# Altium footprint library sinking-clock.PcbLib: 24 footprints (part 2 of 2)
Each footprint in its own frame and in the unit in brackets; x right, y up, seen from the top. Pads: shape width x height; smd on the part's side, far side on the other; paste and mask are expansions set on the pad; w line width, h text height; cw(c..) or ccw(c..) is an arc to the next point about the centre after c.
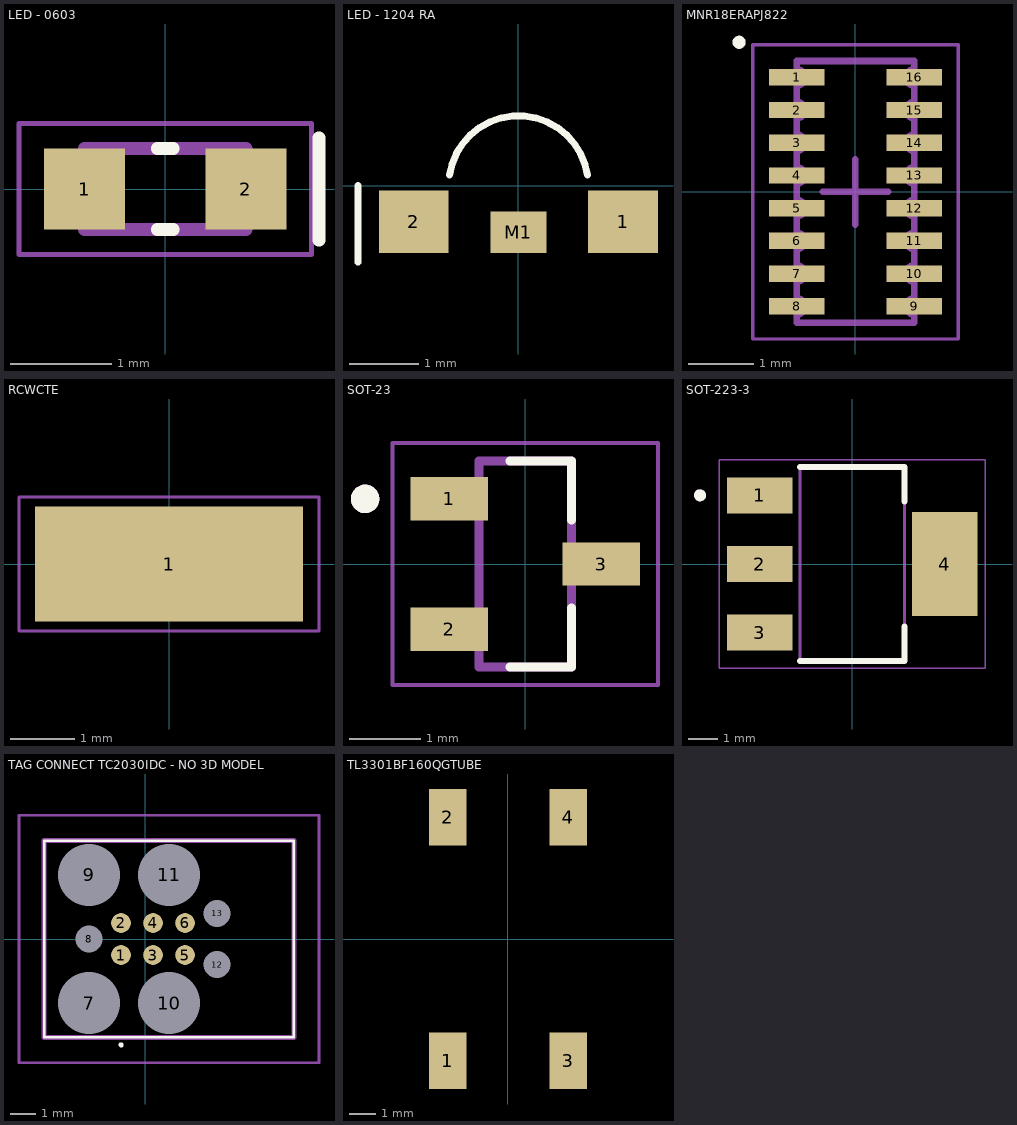
[diagram p1: the footprints below, top view; thin cyan lines are the x and y axes]

## LED - 0603 [mm]
pads (2):
  rect 0.8x0.8 smd: 1(-0.8,0) 2(0.8,0)
Top Overlay:
  lines w0.127: -0.08,-0.4 0.08,-0.4 ; -0.08,0.4 0.08,0.4 ; 1.524,-0.508 1.524,0.508
Mechanical 13:
  lines w0.127: -0.8,-0.4 -0.8,0.4 0.8,0.4 0.8,-0.4 -0.8,-0.4
Mechanical 15:
  lines w0.05: -1.45,-0.65 -1.45,0.65 1.45,0.65 1.45,-0.65 -1.45,-0.65
3D body "WL-SMCW SMT LED WURTH ELEKTRONIK 0603.step": height 0.7, standoff 0, extent -0.8,-0.35 0.8,0.35

## LED - 1204 RA [mm] "SMD Mono-color Side view Waterclear, body 3.2x1.5mm"
height 1
pads (3):
  rect 1x0.9 smd: 1(1.5,-0.52) 2(-1.5,-0.52)
  rect 0.8x0.6 smd: M1(0,-0.67)
Top Overlay:
  lines w0.1: -2.3,-1.1 -2.3,0 ; -0.989,0.148 cw(c0,0) 0.989,0.148
3D body "WL-SMSW_124_round.stp": height 1, standoff 0, extent -1.6,-0.77 1.6,0.708

## MNR18ERAPJ822 [mm] "8.2k Res Array, Concave, 16-Leads, Pitch 0.50mm,  Body 4.00x1.60mm"
height 0.6
pads (16):
  rect 0.85x0.25 smd: 1(-0.9,1.75) 2(-0.9,1.25) 3(-0.9,0.75) 4(-0.9,0.25) 5(-0.9,-0.25) 6(-0.9,-0.75) 7(-0.9,-1.25) 8(-0.9,-1.75) 9(0.9,-1.75) 10(0.9,-1.25) 11(0.9,-0.75) 12(0.9,-0.25) 13(0.9,0.25) 14(0.9,0.75) 15(0.9,1.25) 16(0.9,1.75)
Top Overlay:
  circle w0.1: c-1.778,2.286 r0.05
Mechanical 13:
  lines w0.1: -0.9,-2 0.9,-2 0.9,-1.875 cw(c0.9,-1.75) 0.9,-1.625 0.9,-1.375 cw(c0.9,-1.25) 0.9,-1.125 0.9,-0.875 cw(c0.9,-0.75) 0.9,-0.625 0.9,-0.375 cw(c0.9,-0.25) 0.9,-0.125 0.9,0.125 cw(c0.9,0.25) 0.9,0.375 0.9,0.625 cw(c0.9,0.75) 0.9,0.875 0.9,1.125 cw(c0.9,1.25) 0.9,1.375 0.9,1.625 cw(c0.9,1.75) 0.9,1.875 0.9,2 -0.9,2 -0.9,1.875 cw(c-0.9,1.75) -0.9,1.625 -0.9,1.375 cw(c-0.9,1.25) -0.9,1.125 -0.9,0.875 cw(c-0.9,0.75) -0.9,0.625 -0.9,0.375 cw(c-0.9,0.25) -0.9,0.125 -0.9,-0.125 cw(c-0.9,-0.25) -0.9,-0.375 -0.9,-0.625 cw(c-0.9,-0.75) -0.9,-0.875 -0.9,-1.125 cw(c-0.9,-1.25) -0.9,-1.375 -0.9,-1.625 cw(c-0.9,-1.75) -0.9,-1.875 -0.9,-2
Mechanical 15:
  lines w0.05: -1.57,-2.25 1.57,-2.25 1.57,2.25 -1.57,2.25 -1.57,-2.25
  lines w0.1: -0.5,0 0.5,0 ; 0,-0.5 0,0.5
3D body "CAC-50P400X160-16N.step": height 0.6, standoff 0, extent -0.85,-2 0.85,2

## RCWCTE [mm]
height 2
pads (1):
  rect 4.2x1.8 smd: 1(0,0)
Mechanical 13:
  lines w0.127: -1.6,-0.8 1.6,-0.8 1.6,0.8 -1.6,0.8 -1.6,-0.8
Mechanical 15:
  lines w0.05: -2.35,-1.05 2.35,-1.05 2.35,1.05 -2.35,1.05 -2.35,-1.05
3D body "step_temp.STEP": height 2.01, standoff 0, extent -1.6,-0.8 1.6,0.8

## SOT-23 [mm]
pads (3):
  rect 1.09x0.61 smd: 1(-1.07,0.915) 2(-1.07,-0.915) 3(1.07,0)
Top Overlay:
  circle w0.2: c-2.25,0.915 r0.1
  lines w0.127: -0.212,-1.45 0.65,-1.45 0.65,-0.619 ; -0.212,1.45 0.65,1.45 0.65,0.619
Mechanical 13:
  circle w0.2: c-2.25,0.915 r0.1
  lines w0.127: -0.65,-1.45 0.65,-1.45 0.65,1.45 -0.65,1.45 -0.65,-1.45
Mechanical 15:
  lines w0.05: -1.865,-1.7 1.865,-1.7 1.865,1.7 -1.865,1.7 -1.865,-1.7
3D body "step_temp.STEP": height 1.2, standoff 0, extent -1.2,-1.45 1.2,1.45

## SOT-223-3 [mm]
pads (4):
  rect 2.2x1.2 smd: 1(-3.1,2.3) 2(-3.1,0) 3(-3.1,-2.3)
  rect 2.2x3.5 smd: 4(3.1,0)
Top Overlay:
  circle w0.2: c-5.1,2.3 r0.1
  lines w0.2: -1.75,-3.25 1.75,-3.25 1.75,-2.1 ; -1.75,3.25 1.75,3.25 1.75,2.1
Mechanical 13:
  circle w0.2: c-5.1,2.3 r0.1
  lines w0.1: -1.75,-3.25 1.75,-3.25 1.75,3.25 -1.75,3.25 -1.75,-3.25
Mechanical 15:
  lines w0.05: -4.45,-3.5 -4.45,3.5 4.45,3.5 4.45,-3.5 -4.45,-3.5
3D body "step_temp.STEP": height 1.65, standoff 0, extent -3.5,-3.25 3.5,3.25

## TAG CONNECT TC2030IDC - NO 3D MODEL [mil]
pads (13):
  round 30.83 smd: 1(-37.52,-25) 2(-37.52,25) 3(12.48,-25) 4(12.48,25) 5(62.52,-25) 6(62.52,25)
  round 48.25 hole 96.5 unplated: 7(-87.52,-100) 9(-87.52,100) 10(37.48,-100) 11(37.48,100)
  round 21 hole 42.01 unplated: 8(-87.52,0) 12(112.48,-40) 13(112.48,40)
Top Overlay:
  lines w3.94: -157.48,-153.54 232.28,-153.54 232.28,153.54 -157.48,153.54 -157.48,-153.54 ; -39.37,-165.35 cw(c-37.4,-165.35) -35.43,-165.35 cw(c-37.4,-165.35) -39.37,-165.35
Mechanical 13:
  lines w7.87: -157.48,-153.54 232.28,-153.54 232.28,153.54 -157.48,153.54 -157.48,-153.54
Mechanical 15:
  lines w3.94: -196.85,-192.91 271.65,-192.91 271.65,192.91 -196.85,192.91 -196.85,-192.91

## TL3301BF160QGTUBE [mm]
pads (4):
  rect 1.4x2.1 smd: 1(-2.25,-4.55) 2(-2.25,4.55) 3(2.25,-4.55) 4(2.25,4.55)
3D body "TL3301BF160QG--3DModel-STEP-520916.STEP": height 9.55, standoff -0.03, extent -3.036,-5.022 2.964,4.978